# Altium footprint library 电池.PcbLib: 2 footprints
Each footprint in its own frame and in the unit in brackets; x right, y up, seen from the top. Pads: shape width x height; smd on the part's side, far side on the other; paste and mask are expansions set on the pad; w line width, h text height; cw(c..) or ccw(c..) is an arc to the next point about the centre after c.
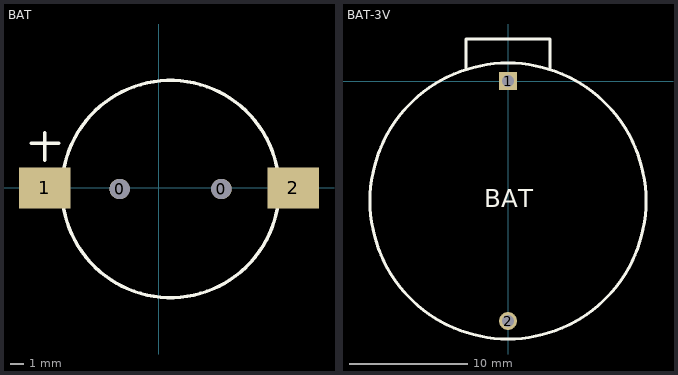
[diagram p0: the footprints below, top view; thin cyan lines are the x and y axes]

## BAT [mil]
pads (4):
  round 59.05 hole 59.05: 0(-113.28,-3) 0(182,-3)
  rect 150x120 smd: 1(-330,0) 2(390,0)
Top Overlay:
  circle w10: c34.36,-3 r314.96
  lines w10: -370,130 -290,130 ; -330,80 -330,160

## BAT-3V [mil]
pads (2):
  rect 60x60 hole 40: 1(0,0)
  round 60 hole 40: 2(0,-800)
Top Overlay:
  circle w10: c0,-400 r460
  lines w10: -140,40 -140,140 140,140 140,40
  text "BAT" at -80,-420 h60